# EAGLE library part 66953-010LF (library 20PINHEADER)
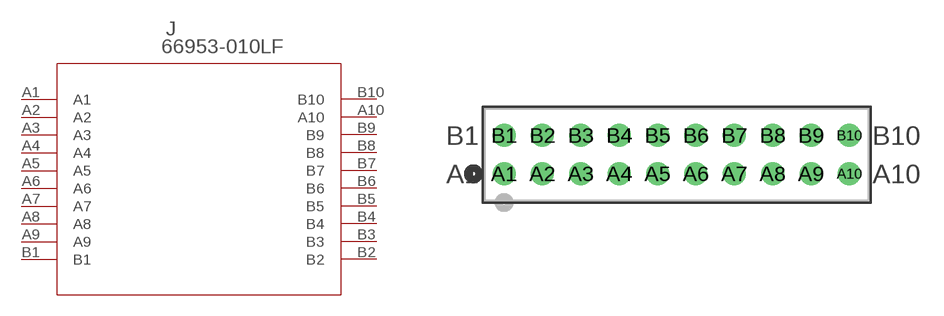
[diagram p0: symbol with the pads of 66953-010LF; footprint 66953-010LF]

Designator prefix J

## 66953-010LF (MANUFACTURER_PART_NUMBER: 66953010LF; VENDOR: Tyco Electronics)  [66953-010LF]
A1  A1  pas
A2  A2  pas
A3  A3  pas
A4  A4  pas
A5  A5  pas
A6  A6  pas
A7  A7  pas
A8  A8  pas
A9  A9  pas
A10  A10  pas
B1  B1  pas
B2  B2  pas
B3  B3  pas
B4  B4  pas
B5  B5  pas
B6  B6  pas
B7  B7  pas
B8  B8  pas
B9  B9  pas
B10  B10  pas

## Footprint 66953-010LF (pad centres in mm)
drill 1.016 pad 1.524: A1 -22.86,-2.54; A2 -20.32,-2.54; A3 -17.78,-2.54; A4 -15.24,-2.54; A5 -12.7,-2.54; A6 -10.16,-2.54; A7 -7.62,-2.54; A8 -5.08,-2.54; A9 -2.54,-2.54; A10 0,-2.54; B1 -22.86,0; B2 -20.32,0; B3 -17.78,0; B4 -15.24,0; B5 -12.7,0; B6 -10.16,0; B7 -7.62,0; B8 -5.08,0; B9 -2.54,0; B10 0,0